# EAGLE library part SI-60002-F (library bel-stewart-connector-priv)
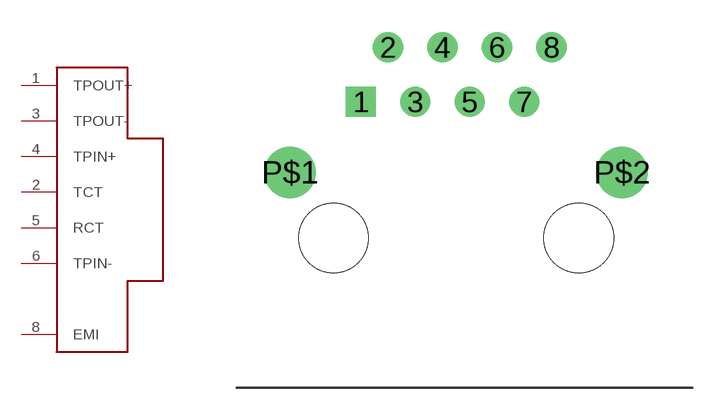
[diagram p0: symbol with the pads of SI-60002-F; footprint SI-60002-F]

Designator prefix -

## SI-60002-F  [SI-60002-F]
1  TPOUT+
2  TCT
3  TPOUT-
4  TPIN+
5  RCT
6  TPIN-
8  EMI

## Footprint SI-60002-F (pad centres in mm)
drill 0.9 square: 1 -4.53,6.15
drill 0.9: 2 -3.26,8.69; 3 -1.99,6.15; 4 -0.72,8.69; 5 0.55,6.15; 6 1.82,8.69; 7 3.09,6.15; 8 4.36,8.69
drill 1.6: P$1 -7.83,2.85; P$2 7.66,2.85
hole 3.25 at -5.8,-0.2
hole 3.25 at 5.63,-0.2